# Altium schematic symbol library Components - 07.03.23 - 21.42.SchLib: 1 symbol
Pins are listed as number, name and electrical type; pins without a type are passive.

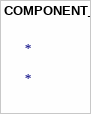
[diagram p0: symbol COMPONENT_1]

## COMPONENT_1
designator *